# EAGLE library part RJLSE-4X1XX-01 (library RJLSE-4X1XX-01)
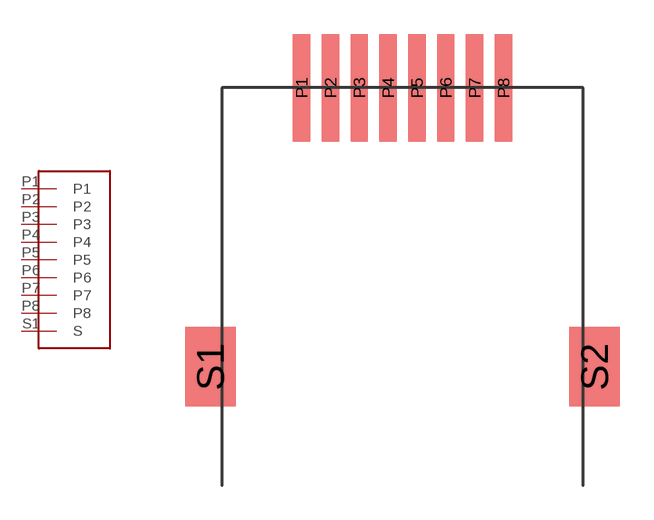
[diagram p0: symbol with the pads of RJLSE-4X1XX-01; footprint RJLSE-4X1XX-01]

Designator prefix -

## RJLSE-4X1XX-01  [RJLSE-4X1XX-01]
P1  P1
P2  P2
P3  P3
P4  P4
P5  P5
P6  P6
P7  P7
P8  P8
S1  S

## Footprint RJLSE-4X1XX-01 (pad centres in mm)
smd 0.762 x 4.75: P1 -4.445,8.763; P2 -3.175,8.763; P3 -1.905,8.763; P4 -0.635,8.763; P5 0.635,8.763; P6 1.905,8.763; P7 3.175,8.763; P8 4.445,8.763
smd 2.235 x 3.505: S1 -8.458,-3.531; S2 8.458,-3.531